# EAGLE library part M95512-DR (library EXCISS)
M95512-DRE 512-Kbit serial SPI bus EEPROM with high speed clock 105°C operation Links Datasheet <http://www.st.com/resource/en/datasheet/m95512-dre.pdf> Product website <http://www.st.com/en/memories/m95512-dre.html>
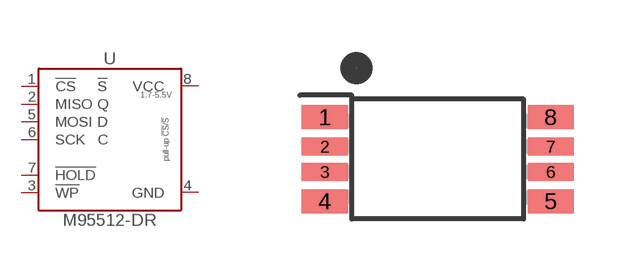
[diagram p28: symbol with the pads of TSSOP8; footprint TSSOP8]

Designator prefix U

## M95512-DRDW8TP/K  [TSSOP8]
1  !CS  in
2  MISO  out
3  !WP  in
4  GND  pwr
5  MOSI  in
6  SCK  in
7  !HOLD  in
8  VCC  pwr

## Footprint TSSOP8 (pad centres in mm)
smd 1.15 x 0.6: 1 -2.825,1.052; 4 -2.825,-1.052; 5 2.825,-1.052; 8 2.825,1.052
smd 1.15 x 0.45: 2 -2.825,0.318; 3 -2.825,-0.318; 6 2.825,-0.318; 7 2.825,0.318